# EAGLE library part SAMTEC-MMS-104-02-X-SH (library J-Samtec-MMS-104-02-X-SH-4pin-2mm-RA-SMT-for-RBF)
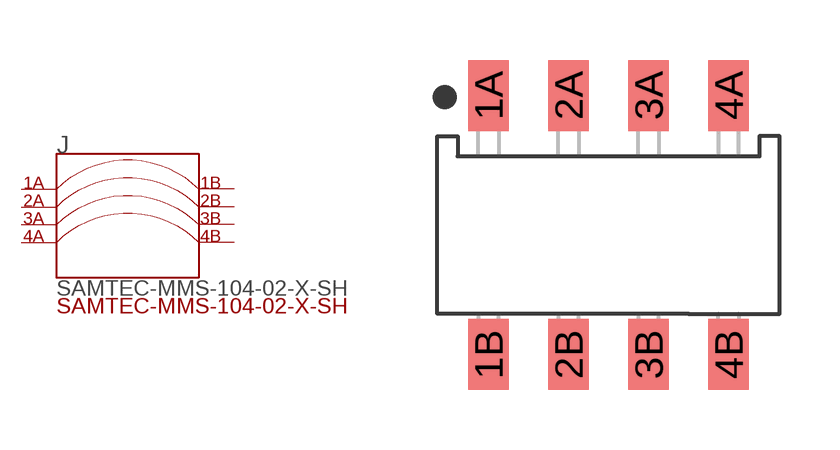
[diagram p0: symbol with the pads of SAMTEC-MMS-104-02-X-SH; footprint SAMTEC-MMS-104-02-X-SH]

Designator prefix J

## SAMTEC-MMS-104-02-X-SHJ  [SAMTEC-MMS-104-02-X-SH]
1A  1A  pas
1B  1B  pas
2A  2A  pas
2B  2B  pas
3A  3A  pas
3B  3B  pas
4A  4A  pas
4B  4B  pas

## Footprint SAMTEC-MMS-104-02-X-SH (pad centres in mm)
translated Allegro footprint
smd 1.02 x 1.78: 1A -3,3.24; 1B -3,-3.24; 2A -1,3.24; 2B -1,-3.24; 3A 1,3.24; 3B 1,-3.24; 4A 3,3.24; 4B 3,-3.24